# Altium footprint library Metal Screening Box.PcbLib: 38 footprints (part 1 of 3)
Each footprint in its own frame and in the unit in brackets; x right, y up, seen from the top. Pads: shape width x height; smd on the part's side, far side on the other; paste and mask are expansions set on the pad; w line width, h text height; cw(c..) or ccw(c..) is an arc to the next point about the centre after c.
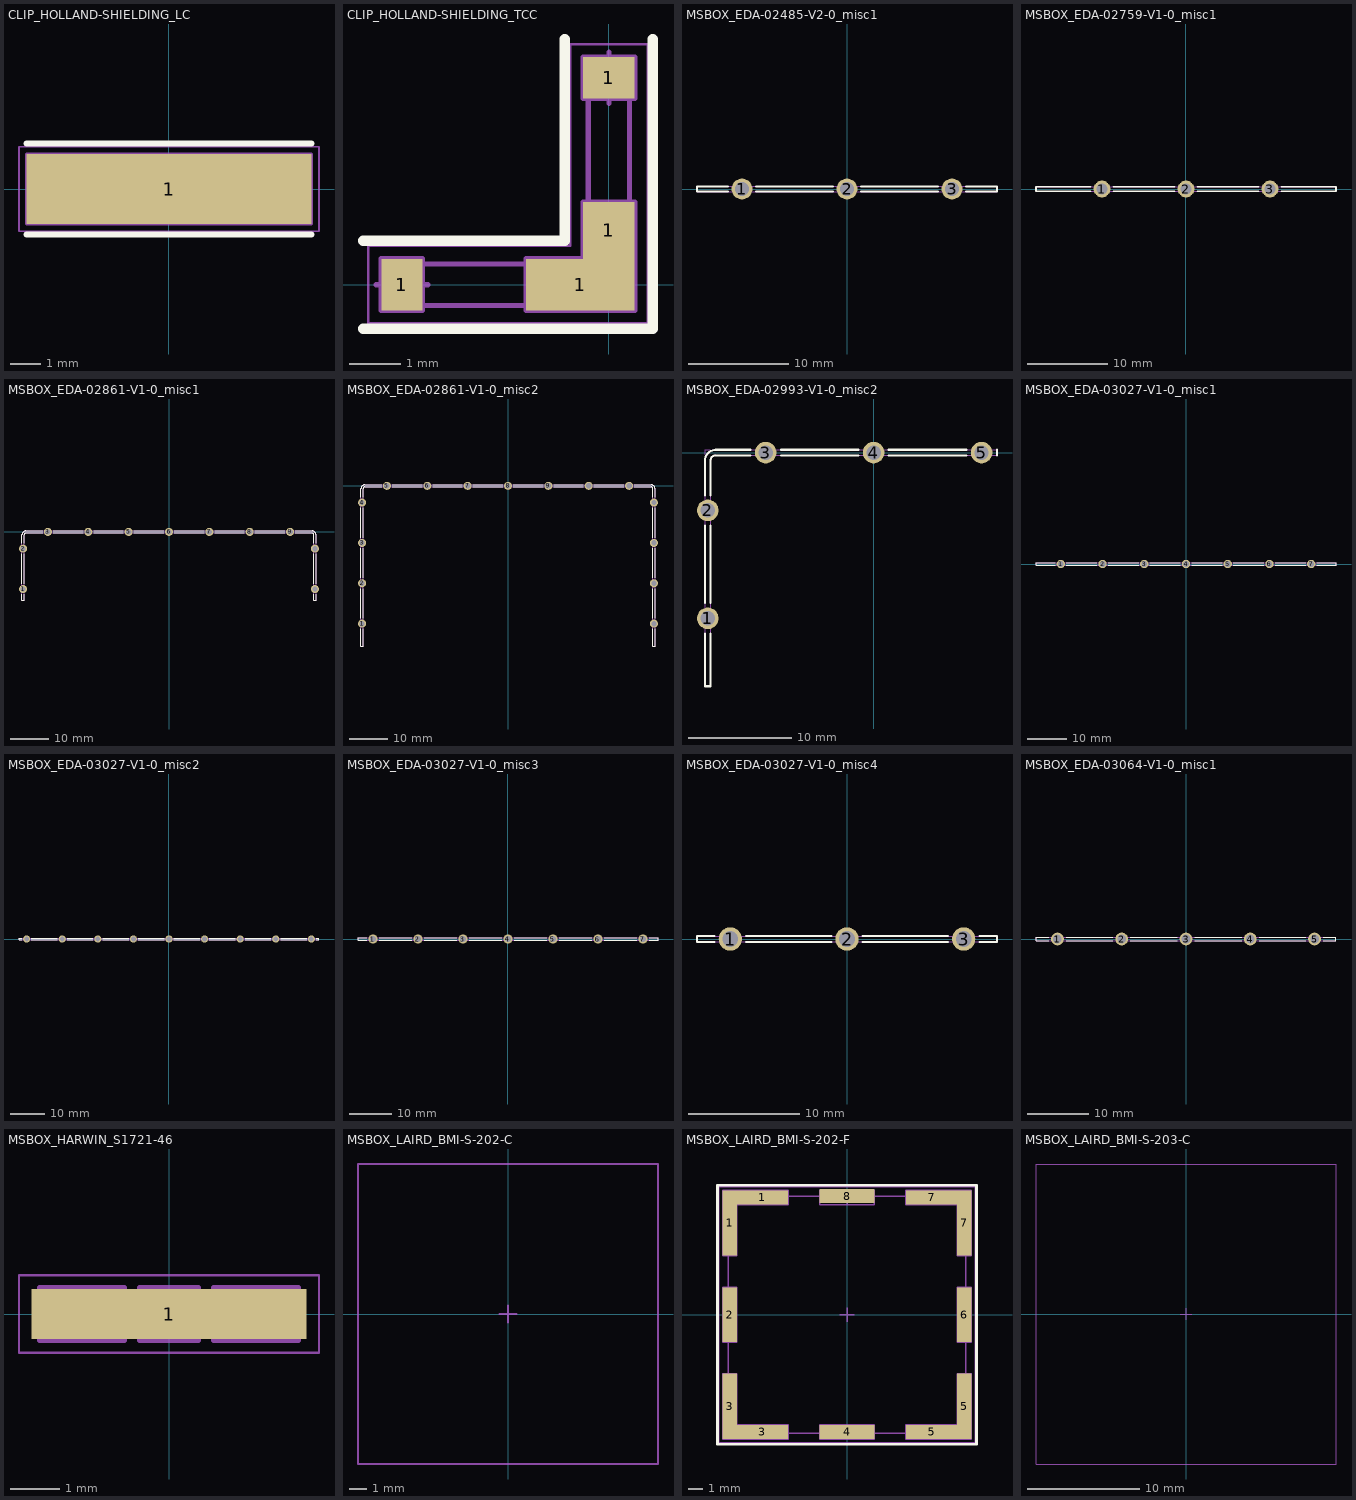
[diagram p0: the footprints below, top view; thin cyan lines are the x and y axes]

## CLIP_HOLLAND-SHIELDING_LC [mm] "Surface Mount Clip for PCB Screening Covers"
height 3.5
pads (1):
  rect 9.4x2.3 smd: 1(0,0)
Top Overlay:
  lines w0.2: -4.7,-1.5 4.7,-1.5 ; -4.7,1.5 4.7,1.5
Mechanical 8:
  lines w0.1: -0.5,0 0,0 ; 0,-0.5 0,0 ; 0,0.5 0,0 ; 0.5,0 0,0 ; -4.7,-1.15 -4.7,1.15 4.7,1.15 4.7,-1.15 -4.7,-1.15
Mechanical 14:
  lines w0.1: -4.4,-0.243 -1.8,-0.243 -1.8,-1.15 -4.4,-1.15 -4.4,1.15 -1.8,1.15 -1.8,0.243 -4.4,0.243 ; -3.667,-0.243 cw(c-3.35,0) -3.667,0.243 ; -2.032,-0.243 ccw(c-2.35,0) -2.032,0.243 ; -1.8,-0.85 cw(c-1.65,-0.85) -1.5,-0.85 -1.5,-1.15 1.5,-1.15 1.5,-0.85 cw(c1.65,-0.85) 1.8,-0.852 ; -1.8,0.852 ccw(c-1.65,0.85) -1.5,0.85 -1.5,1.15 1.5,1.15 1.5,0.85 ccw(c1.65,0.85) 1.8,0.85 ; 2.033,-0.243 cw(c2.35,0) 2.033,0.243 ; 3.668,-0.243 ccw(c3.35,0) 3.668,0.243 ; 4.4,-0.243 1.8,-0.243 1.8,-1.15 4.4,-1.15 4.4,1.15 1.8,1.15 1.8,0.243 4.4,0.243
Mechanical 15:
  lines w0.05: -4.95,-1.4 4.95,-1.4 4.95,1.4 -4.95,1.4 -4.95,-1.4
3D body "CLIP_HOLLAND-SHIELDING_LC.stp": height 3.5, standoff 0, extent -4.4,-1.15 4.4,1.15

## CLIP_HOLLAND-SHIELDING_TCC [mm] "Surface Mount Tiny Corner Clip (for 1500 series Clip-on EMI shielding cans for PCBs)"
height 1.35
pads (4):
  rect 0.8x1 smd: 1(-4,0)
  rect 2.1x1 smd: 1(-0.55,0)
  rect 1x1.1 smd: 1(0,1.05)
  rect 1x0.8 smd: 1(0,4)
Top Overlay:
  lines w0.2: -4.75,-0.85 0.85,-0.85 0.85,4.75 ; -4.75,0.85 -0.85,0.85 -0.85,4.75
Mechanical 8:
  lines w0.1: -4.5,0 -4,0 ; -4,-0.5 -4,0 ; -4,0.5 -4,0 ; -3.5,0 -4,0 ; -1.05,0 -0.55,0 ; -0.55,-0.5 -0.55,0 ; -0.55,0.5 -0.55,0 ; -0.5,1.05 0,1.05 ; -0.5,4 0,4 ; -0.354,-0.354 0,0 ; -0.354,0.354 0,0 ; -0.05,0 -0.55,0 ; 0,0.55 0,1.05 ; 0,1.55 0,1.05 ; 0,3.5 0,4 ; 0,4.5 0,4 ; 0.354,-0.354 0,0 ; 0.354,0.354 0,0 ; 0.5,1.05 0,1.05 ; 0.5,4 0,4 ; -4.4,-0.5 -4.4,0.5 -3.6,0.5 -3.6,-0.5 -4.4,-0.5 ; -1.6,-0.5 -1.6,0.5 -0.5,0.5 -0.5,1.6 0.5,1.6 0.5,-0.5 -1.6,-0.5 ; -0.5,3.6 0.5,3.6 0.5,4.4 -0.5,4.4 -0.5,3.6
Mechanical 14:
  lines w0.1: -4.3,-0.4 -0.1,-0.4 0.4,0.1 0.4,4.3 -0.4,4.3 -0.4,0.6 cw(c-0.6,0.6) -0.6,0.4 -4.3,0.4 -4.3,-0.4
Mechanical 15:
  lines w0.05: -4.65,-0.75 0.75,-0.75 0.75,4.65 -0.75,4.65 -0.75,0.75 -4.65,0.75 -4.65,-0.75
3D body "CLIP_HOLLAND-SHIELDING_TCC.stp": height 1.28, standoff 0, extent -4.3,-0.402 0.402,4.3

## MSBOX_EDA-02485-V2-0_misc1 [mm] "Cutted Screening Strip L30 x W0.54 x H115mm, See EDA-02485-V2-0_misc1"
height 15
pads (3):
  round 2.1 hole 1.4: 1(-10.5,0) 2(0,0) 3(10.5,0)
Top Overlay:
  lines w0.2: -11.925,-0.27 -15,-0.27 -15,0.27 -11.925,0.27 ; -9.075,-0.27 -1.425,-0.27 ; -9.075,0.27 -1.425,0.27 ; 1.425,-0.27 9.075,-0.27 ; 1.425,0.27 9.075,0.27 ; 11.925,-0.27 15,-0.27 15,0.27 11.925,0.27
Mechanical 8:
  lines w0.1: -11,0 -10.5,0 ; -10.5,-0.5 -10.5,0 ; -10.5,0.5 -10.5,0 ; -10,0 -10.5,0 ; -0.5,0 0,0 ; 0,-0.5 0,0 ; 0,0.5 0,0 ; 0.5,0 0,0 ; 10,0 10.5,0 ; 10.5,-0.5 10.5,0 ; 10.5,0.5 10.5,0 ; 11,0 10.5,0
Mechanical 14:
  lines w0.1: -15,-0.27 15,-0.27 15,0.27 -15,0.27 -15,-0.27
3D body "MSBOX_EDA-02485-V1-0_misc1.stp": height 15, standoff -2, extent -15,-0.27 15,0.27

## MSBOX_EDA-02759-V1-0_misc1 [mm] "Cutted Screening Strip L37.5 x W0.54 x H10mm, See EDA-02759-V1-0_misc1"
height 10
pads (3):
  round 2.1 hole 1.4: 1(-10.5,0) 2(0,0) 3(10.5,0)
Top Overlay:
  lines w0.2: -11.925,-0.27 -18.75,-0.27 -18.75,0.27 -11.925,0.27 ; -9.075,-0.27 -1.425,-0.27 ; -9.075,0.27 -1.425,0.27 ; 1.425,-0.27 9.075,-0.27 ; 1.425,0.27 9.075,0.27 ; 11.925,-0.27 18.75,-0.27 18.75,0.27 11.925,0.27
Mechanical 8:
  lines w0.1: -11,0 -10.5,0 ; -10.5,-0.5 -10.5,0 ; -10.5,0.5 -10.5,0 ; -10,0 -10.5,0 ; -0.5,0 0,0 ; 0,-0.5 0,0 ; 0,0.5 0,0 ; 0.5,0 0,0 ; 10,0 10.5,0 ; 10.5,-0.5 10.5,0 ; 10.5,0.5 10.5,0 ; 11,0 10.5,0
Mechanical 14:
  lines w0.1: -18.75,-0.27 18.75,-0.27 18.75,0.27 -18.75,0.27 -18.75,-0.27
3D body "MSBOX_EDA-02759-V1-0_misc1.stp": height 10, standoff -2, extent -18.75,-0.27 18.75,0.27

## MSBOX_EDA-02861-V1-0_misc1 [mm] "Cutted Screening Strip L76.5 x W18 x H25mm, See EDA-02861-V1-0_misc1"
height 25
pads (11):
  round 2.1 hole 1.4: 1(-37.98,-14.85) 2(-37.98,-4.35) 3(-31.5,0) 4(-21,0) 5(-10.5,0) 6(0,0) 7(10.5,0) 8(21,0) 9(31.5,0) 10(37.98,-4.35) 11(37.98,-14.85)
Top Overlay:
  lines w0.2: -38.25,-16.224 -38.25,-17.73 -37.71,-17.73 -37.71,-16.224 ; -38.25,-13.477 -38.25,-5.724 ; -38.25,-2.977 -38.25,-0.77 cw(c-37.21,-0.77) -37.21,0.27 -32.874,0.27 ; -37.71,-13.477 -37.71,-5.724 ; -37.71,-2.977 -37.71,-0.77 cw(c-37.21,-0.77) -37.21,-0.27 -32.874,-0.27 ; -30.126,-0.27 -22.374,-0.27 ; -30.126,0.27 -22.374,0.27 ; -19.626,-0.27 -11.874,-0.27 ; -19.626,0.27 -11.874,0.27 ; -9.126,-0.27 -1.374,-0.27 ; -9.126,0.27 -1.374,0.27 ; 1.374,-0.27 9.126,-0.27 ; 1.374,0.27 9.126,0.27 ; 11.874,-0.27 19.626,-0.27 ; 11.874,0.27 19.626,0.27 ; 22.374,-0.27 30.126,-0.27 ; 22.374,0.27 30.126,0.27 ; 32.874,-0.27 37.21,-0.27 cw(c37.21,-0.77) 37.71,-0.77 37.71,-2.977 ; 32.874,0.27 37.21,0.27 cw(c37.21,-0.77) 38.25,-0.77 38.25,-2.977 ; 37.71,-16.224 37.71,-17.73 38.25,-17.73 38.25,-16.224 ; 37.71,-13.477 37.71,-5.724 ; 38.25,-13.477 38.25,-5.724
Mechanical 14:
  lines w0.1: -38.25,-17.73 -38.25,-0.77 cw(c-37.21,-0.77) -37.21,0.27 37.21,0.27 cw(c37.21,-0.77) 38.25,-0.77 38.25,-17.73 37.71,-17.73 37.71,-0.77 ccw(c37.21,-0.77) 37.21,-0.27 -37.21,-0.27 ccw(c-37.21,-0.77) -37.71,-0.77 -37.71,-17.73 -38.25,-17.73
3D body "MSBOX_EDA-02861-V1-0_misc1.stp": height 25, standoff -2.25, extent -38.25,-17.73 38.25,0.27

## MSBOX_EDA-02861-V1-0_misc2 [mm] "Cutted Screening Strip L76.5 x W42 x H25mm, See EDA-02861-V1-0_misc2"
height 25
pads (15):
  round 2.1 hole 1.4: 1(-37.98,-35.851) 2(-37.98,-25.351) 3(-37.98,-14.85) 4(-37.98,-4.35) 5(-31.5,0) 6(-21,0) 7(-10.5,0) 8(0,0) 9(10.5,0) 10(21,0) 11(31.5,0) 12(37.98,-4.35) 13(37.98,-14.85) 14(37.98,-25.351) 15(37.98,-35.851)
Top Overlay:
  lines w0.2: -38.25,-37.224 -38.25,-41.73 -37.71,-41.73 -37.71,-37.224 ; -38.25,-34.477 -38.25,-26.724 ; -38.25,-23.977 -38.25,-16.224 ; -38.25,-13.477 -38.25,-5.724 ; -38.25,-2.977 -38.25,-0.77 cw(c-37.21,-0.77) -37.21,0.27 -32.874,0.27 ; -37.71,-34.477 -37.71,-26.724 ; -37.71,-23.977 -37.71,-16.224 ; -37.71,-13.477 -37.71,-5.724 ; -37.71,-2.977 -37.71,-0.77 cw(c-37.21,-0.77) -37.21,-0.27 -32.874,-0.27 ; -30.126,-0.27 -22.374,-0.27 ; -30.126,0.27 -22.374,0.27 ; -19.626,-0.27 -11.874,-0.27 ; -19.626,0.27 -11.874,0.27 ; -9.126,-0.27 -1.374,-0.27 ; -9.126,0.27 -1.374,0.27 ; 1.374,-0.27 9.126,-0.27 ; 1.374,0.27 9.126,0.27 ; 11.874,-0.27 19.626,-0.27 ; 11.874,0.27 19.626,0.27 ; 22.374,-0.27 30.126,-0.27 ; 22.374,0.27 30.126,0.27 ; 32.874,-0.27 37.21,-0.27 cw(c37.21,-0.77) 37.71,-0.77 37.71,-2.977 ; 32.874,0.27 37.21,0.27 cw(c37.21,-0.77) 38.25,-0.77 38.25,-2.977 ; 37.71,-37.224 37.71,-41.73 38.25,-41.73 38.25,-37.224 ; 37.71,-34.477 37.71,-26.724 ; 37.71,-23.977 37.71,-16.224 ; 37.71,-13.477 37.71,-5.724 ; 38.25,-34.477 38.25,-26.724 ; 38.25,-23.977 38.25,-16.224 ; 38.25,-13.477 38.25,-5.724
Mechanical 8:
  lines w0.05: -37.98,-35.851 -37.71,-35.851 ; -37.98,-25.351 -37.71,-25.351 ; -37.98,-14.85 -37.71,-14.85 ; -37.98,-4.35 -37.71,-4.35 ; -31.5,-0.27 -31.5,0 ; -21,-0.27 -21,0 ; -10.5,-0.27 -10.5,0 ; 0,-0.27 0,0 ; 10.5,-0.27 10.5,0 ; 21,-0.27 21,0 ; 31.5,-0.27 31.5,0 ; 37.71,-35.851 37.98,-35.851 ; 37.71,-25.351 37.98,-25.351 ; 37.71,-14.85 37.98,-14.85 ; 37.71,-4.35 37.98,-4.35
Mechanical 14:
  lines w0.1: -38.25,-41.73 -37.71,-41.73 -37.71,-0.77 cw(c-37.21,-0.77) -37.21,-0.27 37.21,-0.27 cw(c37.21,-0.77) 37.71,-0.77 37.71,-41.73 38.25,-41.73 38.25,-0.77 ccw(c37.21,-0.77) 37.21,0.27 -37.21,0.27 ccw(c-37.21,-0.77) -38.25,-0.77 -38.25,-41.73
3D body "MSBOX_EDA-02861-V1-0_misc2.stp": height 25, standoff -2.25, extent -38.25,-41.73 38.25,0.27

## MSBOX_EDA-02993-V1-0_misc2 [mm] "Cutted Screening Strip L50.1 x W0.54 x H10mm, See EDA-02993-V1-0_misc2"
height 10
pads (5):
  round 2.1 hole 1.4: 1(-16.127,-16.127) 2(-16.127,-5.627) 3(-10.5,0) 4(0,0) 5(10.5,0)
Top Overlay:
  lines w0.2: -16.397,-17.603 -16.397,-22.73 -15.857,-22.73 -15.857,-17.603 ; -16.397,-14.652 -16.397,-7.103 ; -16.397,-4.152 -16.397,-0.77 cw(c-15.357,-0.77) -15.357,0.27 -11.976,0.27 ; -15.857,-14.652 -15.857,-7.103 ; -15.857,-4.152 -15.857,-0.77 cw(c-15.357,-0.77) -15.357,-0.27 -11.976,-0.27 ; -9.025,-0.27 -1.476,-0.27 ; -9.025,0.27 -1.476,0.27 ; 1.476,-0.27 9.025,-0.27 ; 1.476,0.27 9.025,0.27 ; 12.003,-0.27 12.003,0.27
Mechanical 8:
  lines w0.1: -16.627,-16.127 -16.127,-16.127 ; -16.627,-5.627 -16.127,-5.627 ; -16.397,-0.23 -16.397,0.27 -15.897,0.27 ; -16.127,-16.627 -16.127,-16.127 ; -16.127,-15.627 -16.127,-16.127 ; -16.127,-6.127 -16.127,-5.627 ; -16.127,-5.127 -16.127,-5.627 ; -15.627,-16.127 -16.127,-16.127 ; -15.627,-5.627 -16.127,-5.627 ; -11,0 -10.5,0 ; -10.5,-0.5 -10.5,0 ; -10.5,0.5 -10.5,0 ; -10,0 -10.5,0 ; -0.5,0 0,0 ; 0,-0.5 0,0 ; 0,0.5 0,0 ; 0.5,0 0,0 ; 10,0 10.5,0 ; 10.5,-0.5 10.5,0 ; 10.5,0.5 10.5,0 ; 11,0 10.5,0
Mechanical 14:
  lines w0.1: -16.397,-22.73 -15.857,-22.73 -15.857,-0.77 cw(c-15.357,-0.77) -15.357,-0.27 12.003,-0.27 12.003,0.27 -15.357,0.27 ccw(c-15.357,-0.77) -16.397,-0.77 -16.397,-22.73
3D body "MSBOX_EDA-02993-V1-0_misc2.stp": height 10, standoff -2.25, extent -16.397,-22.73 12.003,0.27

## MSBOX_EDA-03027-V1-0_misc1 [mm] "Cutted Screening Strip L75.5 x W0.54 x H25mm, See EDA-03027-V1-0_misc1"
height 25
pads (7):
  round 2.1 hole 1.4: 1(-31.5,0) 2(-21,0) 3(-10.5,0) 4(0,0) 5(10.5,0) 6(21,0) 7(31.5,0)
Top Overlay:
  lines w0.2: -32.925,-0.27 -37.75,-0.27 -37.75,0.27 -32.925,0.27 ; -30.075,-0.27 -22.425,-0.27 ; -30.075,0.27 -22.425,0.27 ; -19.575,-0.27 -11.925,-0.27 ; -19.575,0.27 -11.925,0.27 ; -9.075,-0.27 -1.425,-0.27 ; -9.075,0.27 -1.425,0.27 ; 1.425,-0.27 9.075,-0.27 ; 1.425,0.27 9.075,0.27 ; 11.925,-0.27 19.575,-0.27 ; 11.925,0.27 19.575,0.27 ; 22.425,-0.27 30.075,-0.27 ; 22.425,0.27 30.075,0.27 ; 32.925,-0.27 37.75,-0.27 37.75,0.27 32.925,0.27
Mechanical 8:
  lines w0.1: -32,0 -31.5,0 ; -31.5,-0.5 -31.5,0 ; -31.5,0.5 -31.5,0 ; -31,0 -31.5,0 ; -21.5,0 -21,0 ; -21,-0.5 -21,0 ; -21,0.5 -21,0 ; -20.5,0 -21,0 ; -11,0 -10.5,0 ; -10.5,-0.5 -10.5,0 ; -10.5,0.5 -10.5,0 ; -10,0 -10.5,0 ; -0.5,0 0,0 ; 0,-0.5 0,0 ; 0,0.5 0,0 ; 0.5,0 0,0 ; 10,0 10.5,0 ; 10.5,-0.5 10.5,0 ; 10.5,0.5 10.5,0 ; 11,0 10.5,0 ; 20.5,0 21,0 ; 21,-0.5 21,0 ; 21,0.5 21,0 ; 21.5,0 21,0 ; 31,0 31.5,0 ; 31.5,-0.5 31.5,0 ; 31.5,0.5 31.5,0 ; 32,0 31.5,0
Mechanical 14:
  lines w0.1: -37.75,-0.27 -37.75,0.27 37.75,0.27 37.75,-0.27 -37.75,-0.27
3D body "MSBOX_EDA-03027-V1-0_misc1.stp": height 25, standoff -2.25, extent -37.75,-0.27 37.75,0.27

## MSBOX_EDA-03027-V1-0_misc2 [mm] "Cutted Screening Strip L88.5 x W0.54 x H25mm, See EDA-03027-V1-0_misc2"
height 25
pads (9):
  round 2.1 hole 1.4: 1(-42,0) 2(-31.5,0) 3(-21,0) 4(-10.5,0) 5(0,0) 6(10.5,0) 7(21,0) 8(31.5,0) 9(42,0)
Top Overlay:
  lines w0.2: -43.425,-0.27 -44.25,-0.27 -44.25,0.27 -43.425,0.27 ; -40.575,-0.27 -32.925,-0.27 ; -40.575,0.27 -32.925,0.27 ; -30.075,-0.27 -22.425,-0.27 ; -30.075,0.27 -22.425,0.27 ; -19.575,-0.27 -11.925,-0.27 ; -19.575,0.27 -11.925,0.27 ; -9.075,-0.27 -1.425,-0.27 ; -9.075,0.27 -1.425,0.27 ; 1.425,-0.27 9.075,-0.27 ; 1.425,0.27 9.075,0.27 ; 11.925,-0.27 19.575,-0.27 ; 11.925,0.27 19.575,0.27 ; 22.425,-0.27 30.075,-0.27 ; 22.425,0.27 30.075,0.27 ; 32.925,-0.27 40.575,-0.27 ; 32.925,0.27 40.575,0.27 ; 43.425,-0.27 44.25,-0.27 44.25,0.27 43.425,0.27
Mechanical 8:
  lines w0.1: -42.5,0 -42,0 ; -42,-0.5 -42,0 ; -42,0.5 -42,0 ; -41.5,0 -42,0 ; -32,0 -31.5,0 ; -31.5,-0.5 -31.5,0 ; -31.5,0.5 -31.5,0 ; -31,0 -31.5,0 ; -21.5,0 -21,0 ; -21,-0.5 -21,0 ; -21,0.5 -21,0 ; -20.5,0 -21,0 ; -11,0 -10.5,0 ; -10.5,-0.5 -10.5,0 ; -10.5,0.5 -10.5,0 ; -10,0 -10.5,0 ; -0.5,0 0,0 ; 0,-0.5 0,0 ; 0,0.5 0,0 ; 0.5,0 0,0 ; 10,0 10.5,0 ; 10.5,-0.5 10.5,0 ; 10.5,0.5 10.5,0 ; 11,0 10.5,0 ; 20.5,0 21,0 ; 21,-0.5 21,0 ; 21,0.5 21,0 ; 21.5,0 21,0 ; 31,0 31.5,0 ; 31.5,-0.5 31.5,0 ; 31.5,0.5 31.5,0 ; 32,0 31.5,0 ; 41.5,0 42,0 ; 42,-0.5 42,0 ; 42,0.5 42,0 ; 42.5,0 42,0
Mechanical 14:
  lines w0.1: -44.25,-0.27 -44.25,0.27 44.25,0.27 44.25,-0.27 -44.25,-0.27
3D body "MSBOX_EDA-03027-V1-0_misc2.stp": height 25, standoff -2.25, extent -44.25,-0.27 44.25,0.27

## MSBOX_EDA-03027-V1-0_misc3 [mm] "Cutted Screening Strip L70 x W0.54 x H25mm, See EDA-03027-V1-0_misc3"
height 25
pads (7):
  round 2.1 hole 1.4: 1(-31.5,0) 2(-21,0) 3(-10.5,0) 4(0,0) 5(10.5,0) 6(21,0) 7(31.5,0)
Top Overlay:
  lines w0.2: -32.925,-0.27 -35,-0.27 -35,0.27 -32.925,0.27 ; -30.075,-0.27 -22.425,-0.27 ; -30.075,0.27 -22.425,0.27 ; -19.575,-0.27 -11.925,-0.27 ; -19.575,0.27 -11.925,0.27 ; -9.075,-0.27 -1.425,-0.27 ; -9.075,0.27 -1.425,0.27 ; 1.425,-0.27 9.075,-0.27 ; 1.425,0.27 9.075,0.27 ; 11.925,-0.27 19.575,-0.27 ; 11.925,0.27 19.575,0.27 ; 22.425,-0.27 30.075,-0.27 ; 22.425,0.27 30.075,0.27 ; 32.925,-0.27 35,-0.27 35,0.27 32.925,0.27
Mechanical 8:
  lines w0.1: -31.5,0 -32,0 -31.5,0 ; -31.5,0 -31.5,0.5 -31.5,0 ; -31.5,0 -31.5,-0.5 -31.5,0 ; -31.5,0 -31,0 -31.5,0 ; -21,0 -21.5,0 -21,0 ; -21,0 -21,0.5 -21,0 ; -21,0 -21,-0.5 -21,0 ; -21,0 -20.5,0 -21,0 ; -10.5,0 -11,0 -10.5,0 ; -10.5,0 -10.5,0.5 -10.5,0 ; -10.5,0 -10.5,-0.5 -10.5,0 ; -10.5,0 -10,0 -10.5,0 ; 0,0 -0.5,0 0,0 ; 0,0 0,0.5 0,0 ; 0,0 0,-0.5 0,0 ; 0,0 0.5,0 0,0 ; 10.5,0 10,0 10.5,0 ; 10.5,0 10.5,0.5 10.5,0 ; 10.5,0 10.5,-0.5 10.5,0 ; 10.5,0 11,0 10.5,0 ; 21,0 20.5,0 21,0 ; 21,0 21,0.5 21,0 ; 21,0 21,-0.5 21,0 ; 21,0 21.5,0 21,0 ; 31.5,0 31,0 31.5,0 ; 31.5,0 31.5,0.5 31.5,0 ; 31.5,0 31.5,-0.5 31.5,0 ; 31.5,0 32,0 31.5,0
Mechanical 14:
  lines w0.1: -35,-0.27 35,-0.27 35,0.27 -35,0.27 -35,-0.27
3D body "MSBOX_EDA-03027-V1-0_misc3.stp": height 25, standoff -2.25, extent -35,-0.27 35,0.27

## MSBOX_EDA-03027-V1-0_misc4 [mm] "Cutted Screening Strip L27 x W0.54 x H25mm, See EDA-03027-V1-0_misc4"
height 25
pads (3):
  round 2.1 hole 1.4: 1(-10.5,0) 2(0,0) 3(10.5,0)
Top Overlay:
  lines w0.2: -11.925,-0.27 -13.5,-0.27 -13.5,0.27 -11.925,0.27 ; -9.075,-0.27 -1.425,-0.27 ; -9.075,0.27 -1.425,0.27 ; 1.425,-0.27 9.075,-0.27 ; 1.425,0.27 9.075,0.27 ; 11.925,-0.27 13.5,-0.27 13.5,0.27 11.925,0.27
Mechanical 8:
  lines w0.1: -11,0 -10.5,0 ; -10.5,-0.5 -10.5,0 ; -10.5,0.5 -10.5,0 ; -10,0 -10.5,0 ; -0.5,0 0,0 ; 0,-0.5 0,0 ; 0,0.5 0,0 ; 0.5,0 0,0 ; 10,0 10.5,0 ; 10.5,-0.5 10.5,0 ; 10.5,0.5 10.5,0 ; 11,0 10.5,0
Mechanical 14:
  lines w0.1: -13.5,-0.27 13.5,-0.27 13.5,0.27 -13.5,0.27 -13.5,-0.27
3D body "MSBOX_EDA-03027-V1-0_misc4.stp": height 25, standoff -2.25, extent -13.5,-0.27 13.5,0.27

## MSBOX_EDA-03064-V1-0_misc1 [mm] "Cutted Screening Strip L49 x W0.54 x H25mm, See EDA-03064-V1-0_misc1"
height 25
pads (5):
  round 2.1 hole 1.4: 1(-21,0) 2(-10.5,0) 3(0,0) 4(10.5,0) 5(21,0)
Top Overlay:
  lines w0.2: -22.425,-0.27 -24.5,-0.27 -24.5,0.27 -22.425,0.27 ; -19.575,-0.27 -11.925,-0.27 ; -19.575,0.27 -11.925,0.27 ; -9.075,-0.27 -1.425,-0.27 ; -9.075,0.27 -1.425,0.27 ; 1.425,-0.27 9.075,-0.27 ; 1.425,0.27 9.075,0.27 ; 11.925,-0.27 19.575,-0.27 ; 11.925,0.27 19.575,0.27 ; 22.425,-0.27 24.5,-0.27 24.5,0.27 22.425,0.27
Mechanical 8:
  lines w0.1: -21.5,0 -21,0 ; -21,-0.5 -21,0 ; -21,0.5 -21,0 ; -20.5,0 -21,0 ; -11,0 -10.5,0 ; -10.5,-0.5 -10.5,0 ; -10.5,0.5 -10.5,0 ; -10,0 -10.5,0 ; -0.5,0 0,0 ; 0,-0.5 0,0 ; 0,0.5 0,0 ; 0.5,0 0,0 ; 10,0 10.5,0 ; 10.5,-0.5 10.5,0 ; 10.5,0.5 10.5,0 ; 11,0 10.5,0 ; 20.5,0 21,0 ; 21,-0.5 21,0 ; 21,0.5 21,0 ; 21.5,0 21,0
Mechanical 14:
  lines w0.1: -24.5,-0.27 -24.5,0.27 24.5,0.27 24.5,-0.27 -24.5,-0.27
3D body "MSBOX_EDA-03064-V1-0_misc1.stp": height 25, standoff -2.25, extent -24.5,-0.27 24.5,0.27

## MSBOX_HARWIN_S1721-46 [mm] "RFI Shield Clip, Mini Size (5.08mm Long, 2.23mm High), For 0.13-0.23mm Shield Thickness."
height 2.23
pads (1):
  rect 5.59x1.02 smd: 1(0,0)
Mechanical 8:
  lines w0.05: -0.5,0 0,0 ; 0,-0.5 0,0 ; 0,0.5 0,0 ; 0.5,0 0,0
Mechanical 14:
  lines w0.1: -2.625,-0.4 -2.54,-0.4 ; -2.625,0.4 -2.54,0.4 ; -2.54,-0.536 -2.54,-0.4 ; -2.54,0.34 -2.34,0.45 -2.1,0.45 -1.9,0.34 -1.9,-0.04 -2.54,-0.04 -2.54,0.536 ; -1.9,0.15 -0.9,0.335 ; -1.54,-0.108 -2.54,-0.4 ; -0.9,-0.335 -0.6,-0.335 -0.6,-0.535 0.6,-0.535 0.6,-0.335 0.9,-0.335 ; -0.9,-0.257 -1.1,-0.45 -1.34,-0.45 -1.54,-0.257 -1.54,0.04 -0.9,0.04 -0.9,-0.536 -2.625,-0.536 -2.625,0.536 -0.9,0.536 -0.9,0.335 ; 0.9,-0.257 1.1,-0.45 1.34,-0.45 1.54,-0.257 1.54,0.04 0.9,0.04 0.9,-0.536 2.625,-0.536 2.625,0.536 0.9,0.536 0.9,0.335 ; 1.54,-0.108 2.54,-0.4 ; 1.9,0.15 0.9,0.335 ; 2.54,-0.536 2.54,-0.4 ; 2.54,0.342 2.34,0.451 2.1,0.451 1.9,0.342 1.9,-0.039 2.54,-0.039 2.54,0.536 ; 2.54,0.4 2.625,0.4 ; 2.625,-0.4 2.54,-0.4 ; -0.9,0.335 -0.6,0.335 -0.6,0.535 0.6,0.535 0.6,0.335 0.9,0.335
Mechanical 15:
  lines w0.05: -3.045,-0.786 3.045,-0.786 3.045,0.786 -3.045,0.786 -3.045,-0.786
3D body "MSBOX_HARWIN_S1721-46.stp": height 2.23, standoff 0, extent -2.625,-0.535 2.625,0.536

## MSBOX_LAIRD_BMI-S-202-C [mm] "Cover for Frame of Standard Surface Mount Shield (Two Piece), External Dimensions 16.5 x 16.5mm"
height 2
Mechanical 8:
  lines w0.1: 0,0 -0.5,0 0,0 ; 0,0 0,0.5 ; 0,0 0,-0.5 0,0 ; 0,0 0.5,0 0,0 ; 0,0 0,0.5 ; 0,0 0,0.5
Mechanical 14:
  lines w0.1: -8.48,-8.48 -8.48,8.48 8.48,8.48 8.48,-8.48 -8.48,-8.48
3D body "MSBOX_LAIRD_BMI-S-202-C.stp": height 3.73, standoff 1.73, extent -8.48,-8.48 8.48,8.48

## MSBOX_LAIRD_BMI-S-202-F [mm] "Frame of Standard Surface Mount Shield (Two Piece), External Dimensions 16.5 x 16.5mm"
height 3.6
pads (12):
  rect 1x4.55 smd: 1(-8.15,6.375) 3(-8.15,-6.375) 5(8.15,-6.375) 7(8.15,6.375)
  rect 3.55x1 smd: 1(-5.875,8.15) 3(-5.875,-8.15) 5(5.875,-8.15) 7(5.875,8.15)
  rect 1x3.8 smd: 2(-8.15,0) 6(8.15,0)
  rect 3.8x1 smd: 4(0,-8.15) 8(0,8.25)
Top Overlay:
  lines w0.2: -9,-9 9,-9 9,9 -9,9 -9,-9
Mechanical 8:
  drawing of 157 lines, arcs and shapes, not listed
Mechanical 14:
  lines w0.1: -8.25,-8.25 8.25,-8.25 8.25,8.25 -8.25,8.25 -8.25,-8.25
Mechanical 15:
  lines w0.1: -8.9,-8.9 8.9,-8.9 8.9,8.9 -8.9,8.9 -8.9,-8.9
3D body "MSBOX_LAIRD_BMI-S-202-F.stp": height 3.6, standoff 0, extent -8.3,-8.3 8.3,8.3

## MSBOX_LAIRD_BMI-S-203-C [mm] "Cover for Frame of Standard Surface Mount Shield (Two Piece), External Dimensions 26.67 x 26.67mm"
height 2
Mechanical 8:
  lines w0.1: 0,0 0,0.5 ; 0,0 0.5,0 0,0 ; 0,0 0,-0.5 0,0 ; 0,0 0,0.5 ; 0,0 -0.5,0 0,0 ; 0,0 0,0.5
Mechanical 14:
  lines w0.1: -13.335,-13.335 -13.335,13.335 13.335,13.335 13.335,-13.335 -13.335,-13.335
3D body "MSBOX_LAIRD_BMI-S-203-C.stp": height 5.21, standoff 3.21, extent -13.335,-13.335 13.335,13.335